# Altium schematic symbol library am29-memory.SCHLIB: 18 symbols
Pins are listed as number, name and electrical type; pins without a type are passive.

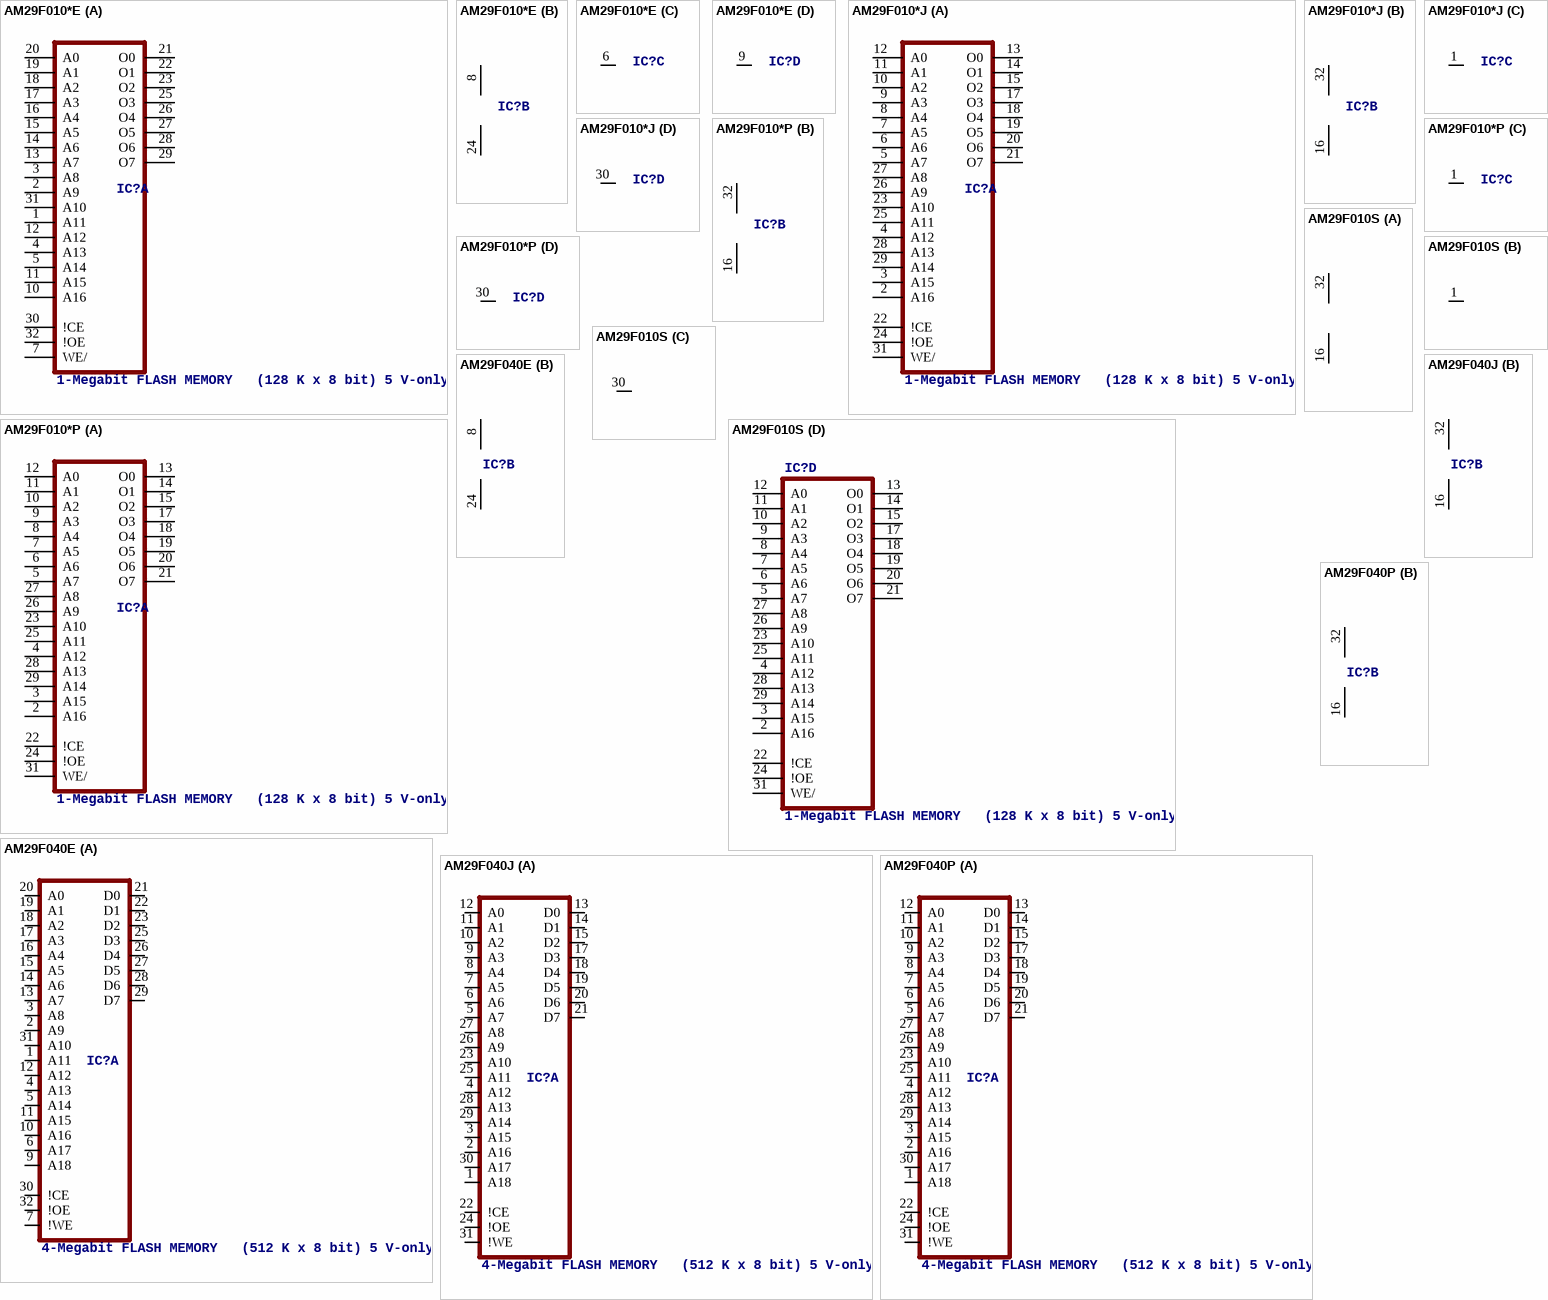
[diagram p0: symbols AM29F010*E to AM29F040P]

## AM29F010*E
designator IC?, comment 1-Megabit FLASH MEMORY   (128 K x 8 bit) 5 V-only
footprint TSOP32
part A pins: 1 A11, 2 A9, 3 A8, 4 A13, 5 A14, 7 WE/, 10 A16, 11 A15, 12 A12, 13 A7, 14 A6, 15 A5, 16 A4, 17 A3, 18 A2, 19 A1, 20 A0, 21 O0 (hiz), 22 O1 (hiz), 23 O2 (hiz), 25 O3 (hiz), 26 O4 (hiz), 27 O5 (hiz), 28 O6 (hiz), 29 O7 (hiz), 30 !CE, 31 A10, 32 !OE
part B pins: 8 VCC (power), 24 GND (power)
part C pins: 6 NC
part D pins: 9 NC

## AM29F010*J
designator IC?, comment 1-Megabit FLASH MEMORY   (128 K x 8 bit) 5 V-only
footprint PLCC32R
part A pins: 2 A16, 3 A15, 4 A12, 5 A7, 6 A6, 7 A5, 8 A4, 9 A3, 10 A2, 11 A1, 12 A0, 13 O0 (hiz), 14 O1 (hiz), 15 O2 (hiz), 17 O3 (hiz), 18 O4 (hiz), 19 O5 (hiz), 20 O6 (hiz), 21 O7 (hiz), 22 !CE, 23 A10, 24 !OE, 25 A11, 26 A9, 27 A8, 28 A13, 29 A14, 31 WE/
part B pins: 16 GND (power), 32 VCC (power)
part C pins: 1 NC
part D pins: 30 NC

## AM29F010*P
designator IC?, comment 1-Megabit FLASH MEMORY   (128 K x 8 bit) 5 V-only
footprint DIL32-3
part A pins: 2 A16, 3 A15, 4 A12, 5 A7, 6 A6, 7 A5, 8 A4, 9 A3, 10 A2, 11 A1, 12 A0, 13 O0 (hiz), 14 O1 (hiz), 15 O2 (hiz), 17 O3 (hiz), 18 O4 (hiz), 19 O5 (hiz), 20 O6 (hiz), 21 O7 (hiz), 22 !CE, 23 A10, 24 !OE, 25 A11, 26 A9, 27 A8, 28 A13, 29 A14, 31 WE/
part B pins: 16 GND (power), 32 VCC (power)
part C pins: 1 NC
part D pins: 30 NC

## AM29F010S
designator IC?, comment 1-Megabit FLASH MEMORY   (128 K x 8 bit) 5 V-only
footprint PLCC-SR32
part A pins: 16 GND (power), 32 VCC (power)
part B pins: 1 NC
part C pins: 30 NC
part D pins: 2 A16, 3 A15, 4 A12, 5 A7, 6 A6, 7 A5, 8 A4, 9 A3, 10 A2, 11 A1, 12 A0, 13 O0 (hiz), 14 O1 (hiz), 15 O2 (hiz), 17 O3 (hiz), 18 O4 (hiz), 19 O5 (hiz), 20 O6 (hiz), 21 O7 (hiz), 22 !CE, 23 A10, 24 !OE, 25 A11, 26 A9, 27 A8, 28 A13, 29 A14, 31 WE/

## AM29F040E
designator IC?, comment 4-Megabit FLASH MEMORY   (512 K x 8 bit) 5 V-only
footprint TSOP32
part A pins: 1 A11, 2 A9, 3 A8, 4 A13, 5 A14, 6 A17, 7 !WE, 9 A18, 10 A16, 11 A15, 12 A12, 13 A7, 14 A6, 15 A5, 16 A4, 17 A3, 18 A2, 19 A1, 20 A0, 21 D0 (hiz), 22 D1 (hiz), 23 D2 (hiz), 25 D3 (hiz), 26 D4 (hiz), 27 D5 (hiz), 28 D6 (hiz), 29 D7 (hiz), 30 !CE, 31 A10, 32 !OE
part B pins: 8 VCC (power), 24 GND (power)

## AM29F040J
designator IC?, comment 4-Megabit FLASH MEMORY   (512 K x 8 bit) 5 V-only
footprint PLCC32R
part A pins: 1 A18, 2 A16, 3 A15, 4 A12, 5 A7, 6 A6, 7 A5, 8 A4, 9 A3, 10 A2, 11 A1, 12 A0, 13 D0 (hiz), 14 D1 (hiz), 15 D2 (hiz), 17 D3 (hiz), 18 D4 (hiz), 19 D5 (hiz), 20 D6 (hiz), 21 D7 (hiz), 22 !CE, 23 A10, 24 !OE, 25 A11, 26 A9, 27 A8, 28 A13, 29 A14, 30 A17, 31 !WE
part B pins: 16 GND (power), 32 VCC (power)

## AM29F040P
designator IC?, comment 4-Megabit FLASH MEMORY   (512 K x 8 bit) 5 V-only
footprint DIL32-3
part A pins: 1 A18, 2 A16, 3 A15, 4 A12, 5 A7, 6 A6, 7 A5, 8 A4, 9 A3, 10 A2, 11 A1, 12 A0, 13 D0 (hiz), 14 D1 (hiz), 15 D2 (hiz), 17 D3 (hiz), 18 D4 (hiz), 19 D5 (hiz), 20 D6 (hiz), 21 D7 (hiz), 22 !CE, 23 A10, 24 !OE, 25 A11, 26 A9, 27 A8, 28 A13, 29 A14, 30 A17, 31 !WE
part B pins: 16 GND (power), 32 VCC (power)

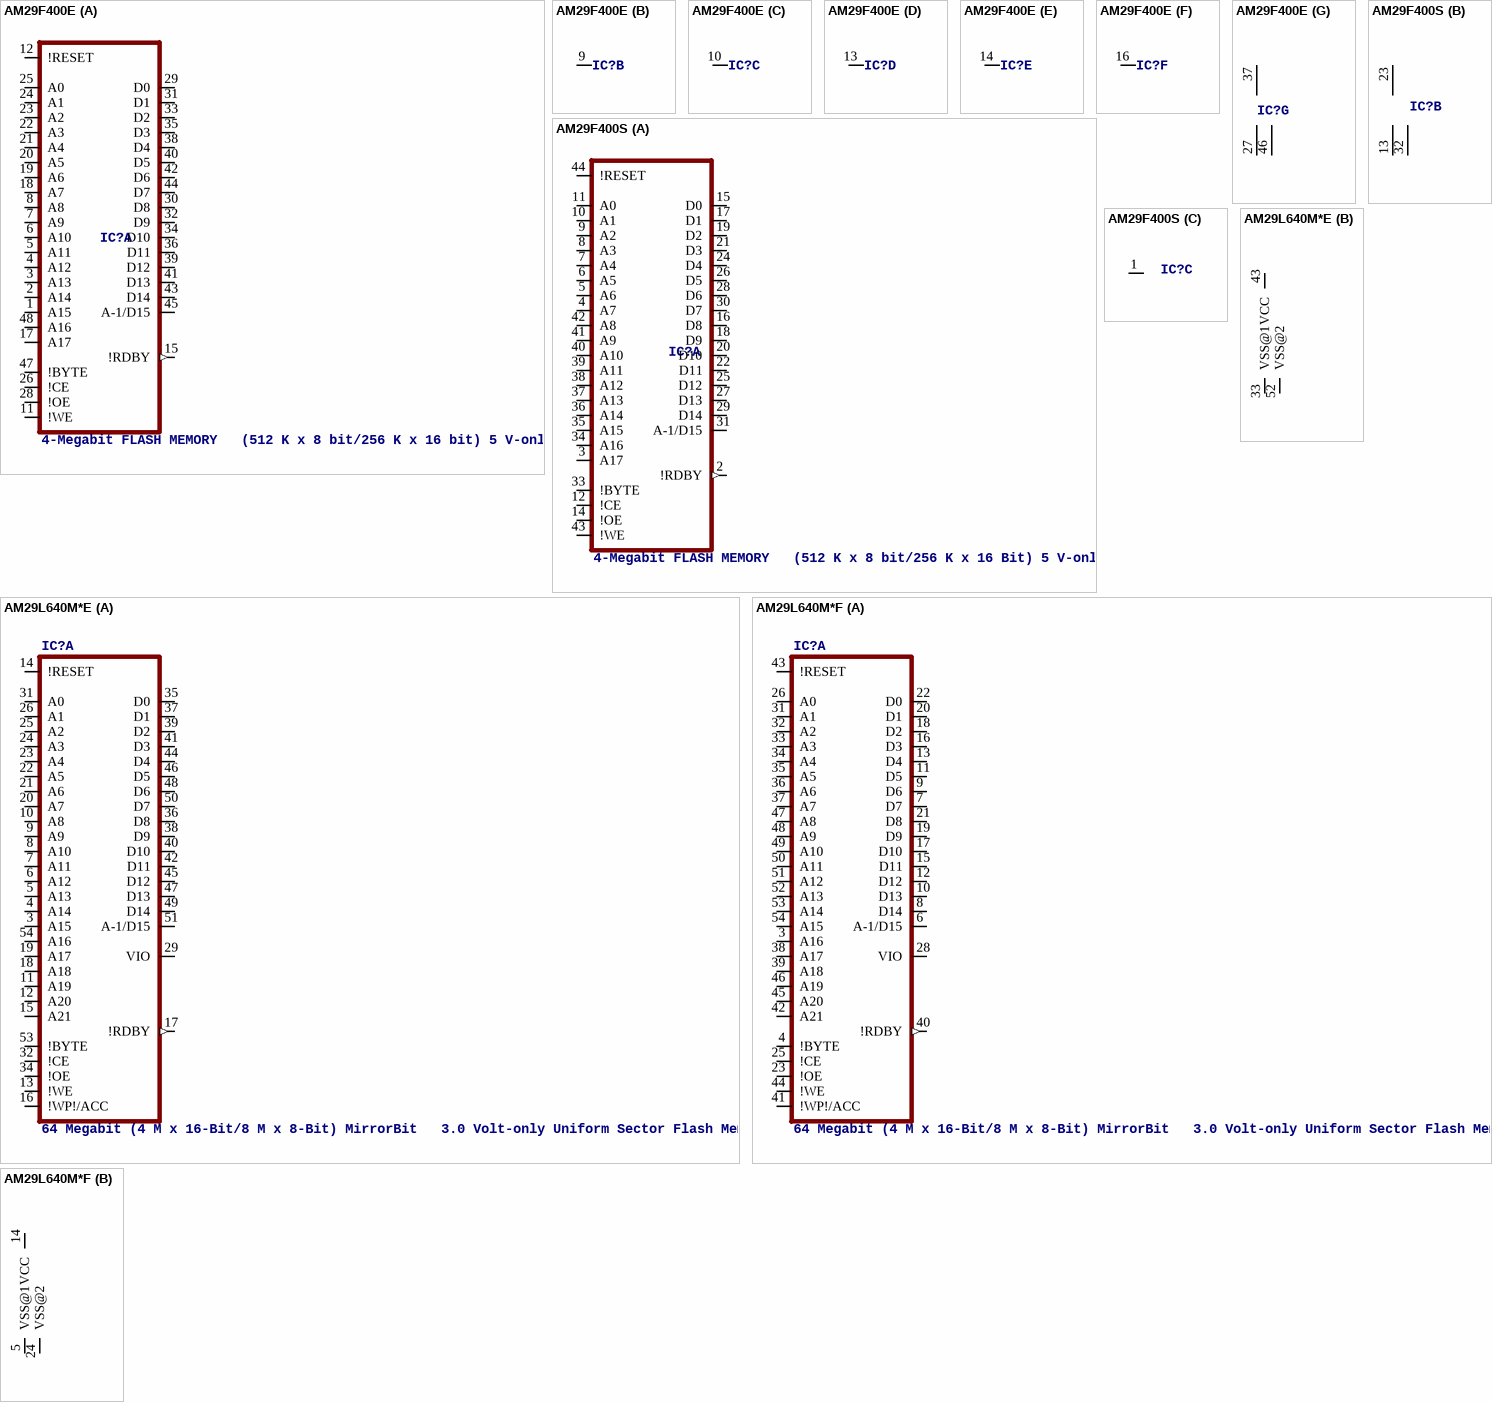
[diagram p1: symbols AM29F400E to AM29L640M*F]

## AM29F400E
designator IC?, comment 4-Megabit FLASH MEMORY   (512 K x 8 bit/256 K x 16 bit) 5 V-only
footprint TSOP48
part A pins: 1 A15, 2 A14, 3 A13, 4 A12, 5 A11, 6 A10, 7 A9, 8 A8, 11 !WE, 12 !RESET, 15 !RDBY (out), 17 A17, 18 A7, 19 A6, 20 A5, 21 A4, 22 A3, 23 A2, 24 A1, 25 A0, 26 !CE, 28 !OE, 29 D0 (hiz), 30 D8 (hiz), 31 D1 (hiz), 32 D9 (hiz), 33 D2 (hiz), 34 D10 (hiz), 35 D3 (hiz), 36 D11 (hiz), 38 D4 (hiz), 39 D12 (hiz), 40 D5 (hiz), 41 D13 (hiz), 42 D6 (hiz), 43 D14 (hiz), 44 D7 (hiz), 45 A-1/D15 (hiz), 47 !BYTE, 48 A16
part B pins: 9 NC
part C pins: 10 NC
part D pins: 13 NC
part E pins: 14 NC
part F pins: 16 NC
part G pins: 27 GND@1 (power), 37 VCC (power), 46 GND@2 (power)

## AM29F400S
designator IC?, comment 4-Megabit FLASH MEMORY   (512 K x 8 bit/256 K x 16 Bit) 5 V-only
footprint SO44
part A pins: 2 !RDBY (out), 3 A17, 4 A7, 5 A6, 6 A5, 7 A4, 8 A3, 9 A2, 10 A1, 11 A0, 12 !CE, 14 !OE, 15 D0 (hiz), 16 D8 (hiz), 17 D1 (hiz), 18 D9 (hiz), 19 D2 (hiz), 20 D10 (hiz), 21 D3 (hiz), 22 D11 (hiz), 24 D4 (hiz), 25 D12 (hiz), 26 D5 (hiz), 27 D13 (hiz), 28 D6 (hiz), 29 D14 (hiz), 30 D7 (hiz), 31 A-1/D15 (hiz), 33 !BYTE, 34 A16, 35 A15, 36 A14, 37 A13, 38 A12, 39 A11, 40 A10, 41 A9, 42 A8, 43 !WE, 44 !RESET
part B pins: 13 GND@1 (power), 23 VCC (power), 32 GND@2 (power)
part C pins: 1 NC

## AM29L640M*E
designator IC?, comment 64 Megabit (4 M x 16-Bit/8 M x 8-Bit) MirrorBit   3.0 Volt-only Uniform Sector Flash Memory with VersatileI/O Control Source: www.amd.com .. 26191.pdf
footprint TSOP56
part A pins: 3 A15, 4 A14, 5 A13, 6 A12, 7 A11, 8 A10, 9 A9, 10 A8, 11 A19, 12 A20, 13 !WE, 14 !RESET, 15 A21, 16 !WP!/ACC, 17 !RDBY (out), 18 A18, 19 A17, 20 A7, 21 A6, 22 A5, 23 A4, 24 A3, 25 A2, 26 A1, 29 VIO (power), 31 A0, 32 !CE, 34 !OE, 35 D0 (hiz), 36 D8 (hiz), 37 D1 (hiz), 38 D9 (hiz), 39 D2 (hiz), 40 D10 (hiz), 41 D3 (hiz), 42 D11 (hiz), 44 D4 (hiz), 45 D12 (hiz), 46 D5 (hiz), 47 D13 (hiz), 48 D6 (hiz), 49 D14 (hiz), 50 D7 (hiz), 51 A-1/D15 (hiz), 53 !BYTE, 54 A16
part B pins: 33 VSS@1 (power), 43 VCC (power), 52 VSS@2 (power)

## AM29L640M*F
designator IC?, comment 64 Megabit (4 M x 16-Bit/8 M x 8-Bit) MirrorBit   3.0 Volt-only Uniform Sector Flash Memory with VersatileI/O Control Source: www.amd.com .. 26191.pdf
footprint TSOP56R
part A pins: 3 A16, 4 !BYTE, 6 A-1/D15 (hiz), 7 D7 (hiz), 8 D14 (hiz), 9 D6 (hiz), 10 D13 (hiz), 11 D5 (hiz), 12 D12 (hiz), 13 D4 (hiz), 15 D11 (hiz), 16 D3 (hiz), 17 D10 (hiz), 18 D2 (hiz), 19 D9 (hiz), 20 D1 (hiz), 21 D8 (hiz), 22 D0 (hiz), 23 !OE, 25 !CE, 26 A0, 28 VIO (power), 31 A1, 32 A2, 33 A3, 34 A4, 35 A5, 36 A6, 37 A7, 38 A17, 39 A18, 40 !RDBY (out), 41 !WP!/ACC, 42 A21, 43 !RESET, 44 !WE, 45 A20, 46 A19, 47 A8, 48 A9, 49 A10, 50 A11, 51 A12, 52 A13, 53 A14, 54 A15
part B pins: 5 VSS@1 (power), 14 VCC (power), 24 VSS@2 (power)

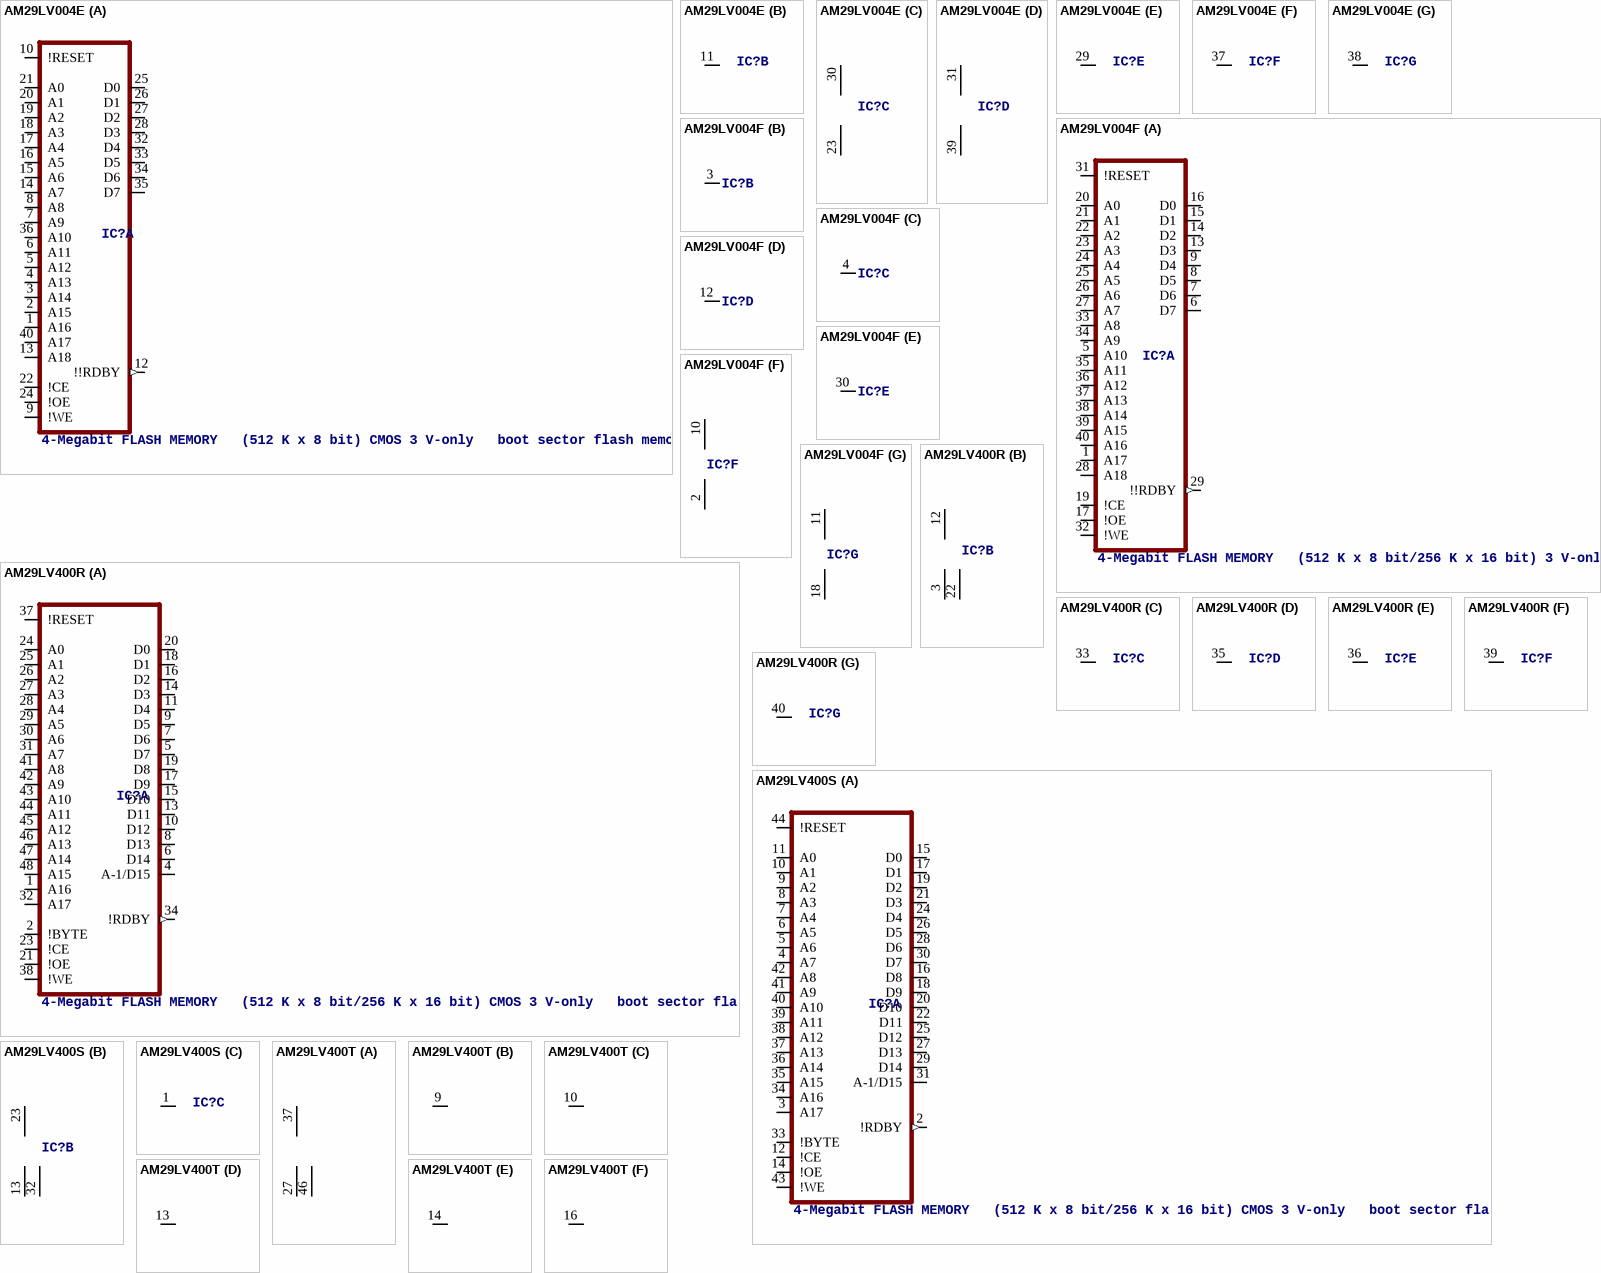
[diagram p2: symbols AM29LV004E to AM29LV400T]

## AM29LV004E
designator IC?, comment 4-Megabit FLASH MEMORY   (512 K x 8 bit) CMOS 3 V-only   boot sector flash memory
footprint TSOP40
part A pins: 1 A16, 2 A15, 3 A14, 4 A13, 5 A12, 6 A11, 7 A9, 8 A8, 9 !WE, 10 !RESET, 12 !!RDBY (out), 13 A18, 14 A7, 15 A6, 16 A5, 17 A4, 18 A3, 19 A2, 20 A1, 21 A0, 22 !CE, 24 !OE, 25 D0 (hiz), 26 D1 (hiz), 27 D2 (hiz), 28 D3 (hiz), 32 D4 (hiz), 33 D5 (hiz), 34 D6 (hiz), 35 D7 (hiz), 36 A10, 40 A17
part B pins: 11 NC
part C pins: 23 GND (power), 30 VCC (power)
part D pins: 31 VCC (power), 39 GND (power)
part E pins: 29 NC
part F pins: 37 NC
part G pins: 38 NC

## AM29LV004F
designator IC?, comment 4-Megabit FLASH MEMORY   (512 K x 8 bit/256 K x 16 bit) 3 V-only
footprint RTSOP40
part A pins: 1 A17, 5 A10, 6 D7 (hiz), 7 D6 (hiz), 8 D5 (hiz), 9 D4 (hiz), 13 D3 (hiz), 14 D2 (hiz), 15 D1 (hiz), 16 D0 (hiz), 17 !OE, 19 !CE, 20 A0, 21 A1, 22 A2, 23 A3, 24 A4, 25 A5, 26 A6, 27 A7, 28 A18, 29 !!RDBY (out), 31 !RESET, 32 !WE, 33 A8, 34 A9, 35 A11, 36 A12, 37 A13, 38 A14, 39 A15, 40 A16
part B pins: 3 NC
part C pins: 4 NC
part D pins: 12 NC
part E pins: 30 NC
part F pins: 2 GND (power), 10 VCC (power)
part G pins: 11 VCC (power), 18 GND (power)

## AM29LV400R
designator IC?, comment 4-Megabit FLASH MEMORY   (512 K x 8 bit/256 K x 16 bit) CMOS 3 V-only   boot sector flash memory
footprint RTSOP48
part A pins: 1 A16, 2 !BYTE, 4 A-1/D15 (hiz), 5 D7 (hiz), 6 D14 (hiz), 7 D6 (hiz), 8 D13 (hiz), 9 D5 (hiz), 10 D12 (hiz), 11 D4 (hiz), 13 D11 (hiz), 14 D3 (hiz), 15 D10 (hiz), 16 D2 (hiz), 17 D9 (hiz), 18 D1 (hiz), 19 D8 (hiz), 20 D0 (hiz), 21 !OE, 23 !CE, 24 A0, 25 A1, 26 A2, 27 A3, 28 A4, 29 A5, 30 A6, 31 A7, 32 A17, 34 !RDBY (out), 37 !RESET, 38 !WE, 41 A8, 42 A9, 43 A10, 44 A11, 45 A12, 46 A13, 47 A14, 48 A15
part B pins: 3 GND@1 (power), 12 VCC (power), 22 GND@2 (power)
part C pins: 33 NC
part D pins: 35 NC
part E pins: 36 NC
part F pins: 39 NC
part G pins: 40 NC

## AM29LV400S
designator IC?, comment 4-Megabit FLASH MEMORY   (512 K x 8 bit/256 K x 16 bit) CMOS 3 V-only   boot sector flash memory
footprint SO44
part A pins: 2 !RDBY (out), 3 A17, 4 A7, 5 A6, 6 A5, 7 A4, 8 A3, 9 A2, 10 A1, 11 A0, 12 !CE, 14 !OE, 15 D0 (hiz), 16 D8 (hiz), 17 D1 (hiz), 18 D9 (hiz), 19 D2 (hiz), 20 D10 (hiz), 21 D3 (hiz), 22 D11 (hiz), 24 D4 (hiz), 25 D12 (hiz), 26 D5 (hiz), 27 D13 (hiz), 28 D6 (hiz), 29 D14 (hiz), 30 D7 (hiz), 31 A-1/D15 (hiz), 33 !BYTE, 34 A16, 35 A15, 36 A14, 37 A13, 38 A12, 39 A11, 40 A10, 41 A9, 42 A8, 43 !WE, 44 !RESET
part B pins: 13 GND@1 (power), 23 VCC (power), 32 GND@2 (power)
part C pins: 1 NC

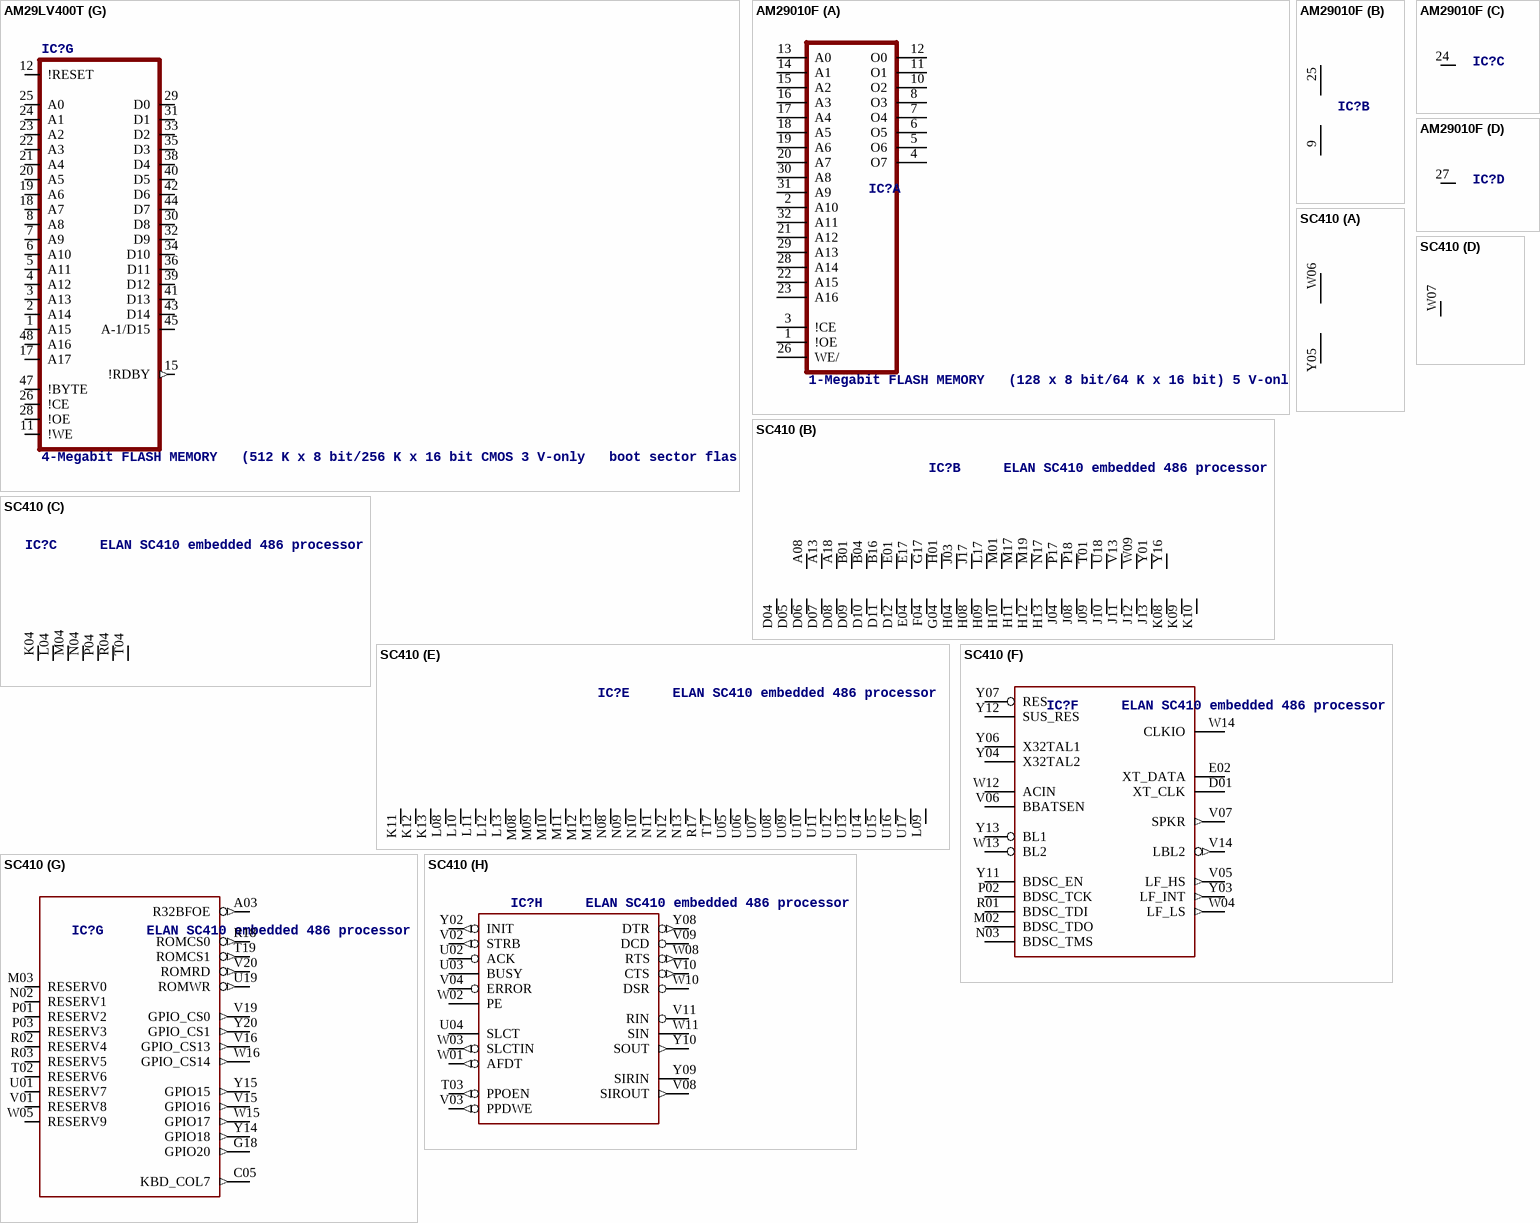
[diagram p3: symbols AM29LV400T to SC410]

## AM29LV400T
designator IC?, comment 4-Megabit FLASH MEMORY   (512 K x 8 bit/256 K x 16 bit CMOS 3 V-only   boot sector flash memory
footprint TSOP48
part A pins: 27 GND@1 (power), 37 VCC (power), 46 GND@2 (power)
part B pins: 9 NC
part C pins: 10 NC
part D pins: 13 NC
part E pins: 14 NC
part F pins: 16 NC
part G pins: 1 A15, 2 A14, 3 A13, 4 A12, 5 A11, 6 A10, 7 A9, 8 A8, 11 !WE, 12 !RESET, 15 !RDBY (out), 17 A17, 18 A7, 19 A6, 20 A5, 21 A4, 22 A3, 23 A2, 24 A1, 25 A0, 26 !CE, 28 !OE, 29 D0 (hiz), 30 D8 (hiz), 31 D1 (hiz), 32 D9 (hiz), 33 D2 (hiz), 34 D10 (hiz), 35 D3 (hiz), 36 D11 (hiz), 38 D4 (hiz), 39 D12 (hiz), 40 D5 (hiz), 41 D13 (hiz), 42 D6 (hiz), 43 D14 (hiz), 44 D7 (hiz), 45 A-1/D15 (hiz), 47 !BYTE, 48 A16

## AM29010F
designator IC?, comment 1-Megabit FLASH MEMORY   (128 x 8 bit/64 K x 16 bit) 5 V-only
footprint RTSOP32
part A pins: 1 !OE, 2 A10, 3 !CE, 4 O7 (hiz), 5 O6 (hiz), 6 O5 (hiz), 7 O4 (hiz), 8 O3 (hiz), 10 O2 (hiz), 11 O1 (hiz), 12 O0 (hiz), 13 A0, 14 A1, 15 A2, 16 A3, 17 A4, 18 A5, 19 A6, 20 A7, 21 A12, 22 A15, 23 A16, 26 WE/, 28 A14, 29 A13, 30 A8, 31 A9, 32 A11
part B pins: 9 GND (power), 25 VCC (power)
part C pins: 24 NC
part D pins: 27 NC

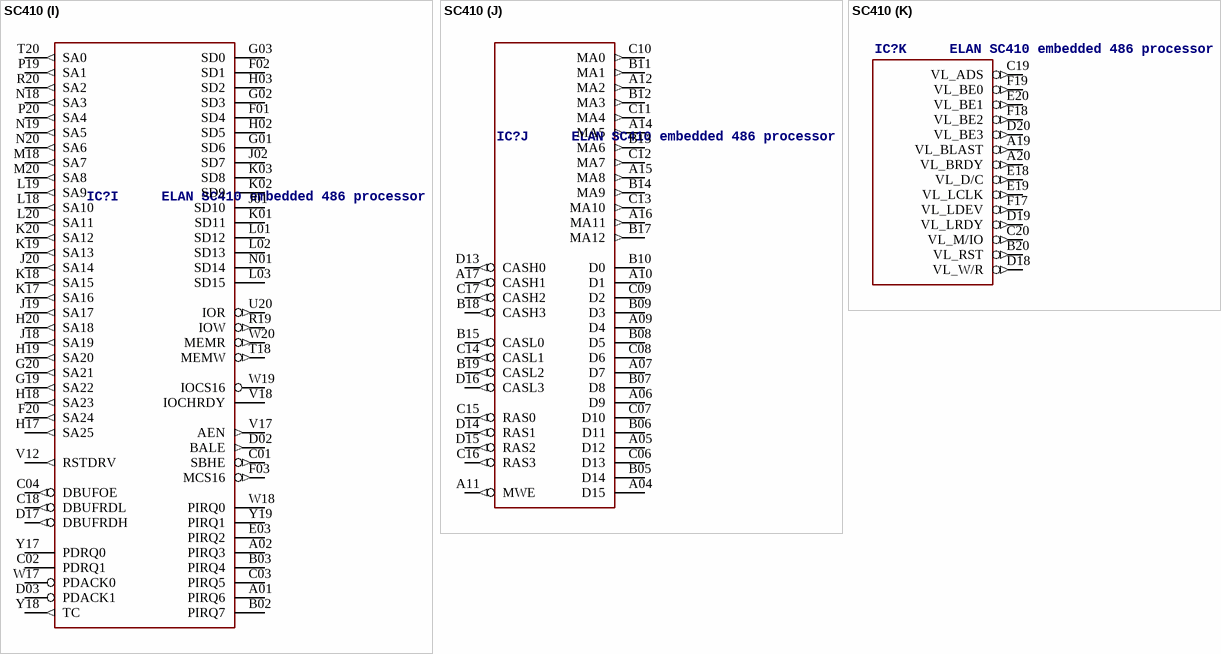
[diagram p4: symbol SC410]

## SC410
designator IC?, comment ELAN SC410 embedded 486 processor
footprint BGA292
part A pins: W06 AVCC@1 (power), Y05 AGND@1 (power)
part B pins: A08 VCC@1 (power), A13 VCC@2 (power), A18 VCC@3 (power), B01 VCC@4 (power), B04 VCC@5 (power), B16 VCC@6 (power), D04 GND@1 (power), D05 GND@2 (power), D06 GND@3 (power), D07 GND@4 (power), D08 GND@5 (power), D09 GND@6 (power), D10 GND@7 (power), D11 GND@8 (power), D12 GND@9 (power), E01 VCC@7 (power), E04 GND@10 (power), E17 VCC@8 (power), F04 GND@11 (power), G04 GND@12 (power), G17 VCC@9 (power), H01 VCC@10 (power), H04 GND@13 (power), H08 GND@14 (power), H09 GND@15 (power), H10 GND@16 (power), H11 GND@17 (power), H12 GND@18 (power), H13 GND@19 (power), J03 VCC@11 (power), J04 GND@20 (power), J08 GND@21 (power), J09 GND@22 (power), J10 GND@23 (power), J11 GND@24 (power), J12 GND@25 (power), J13 GND@26 (power), J17 VCC@12 (power), K08 GND@27 (power), K09 GND@28 (power), K10 GND@29 (power), L17 VCC@13 (power), M01 VCC@14 (power), M17 VCC@15 (power), M19 VCC@16 (power), N17 VCC@17 (power), P17 VCC@18 (power), P18 VCC@19 (power), T01 VCC@20 (power), U18 VCC@21 (power), V13 VCC@22 (power), W09 VCC@23 (power), Y01 VCC@24 (power), Y16 VCC@25 (power)
part C pins: K04 CPUVCC@1 (power), L04 CPUVCC@2 (power), M04 CPUVCC@3 (power), N04 CPUVCC@4 (power), P04 CPUVCC@5 (power), R04 CPUVCC@6 (power), T04 CPUVCC@7 (power)
part D pins: W07 RTCVCC@1 (power)
part E pins: K11 GND@1 (power), K12 GND@2 (power), K13 GND@3 (power), L08 GND@4 (power), L09 GND@36 (power), L10 GND@5 (power), L11 GND@6 (power), L12 GND@7 (power), L13 GND@8 (power), M08 GND@9 (power), M09 GND@10 (power), M10 GND@11 (power), M11 GND@12 (power), M12 GND@13 (power), M13 GND@14 (power), N08 GND@15 (power), N09 GND@16 (power), N10 GND@17 (power), N11 GND@18 (power), N12 GND@19 (power), N13 GND@20 (power), R17 GND@21 (power), T17 GND@22 (power), U05 GND@23 (power), U06 GND@24 (power), U07 GND@25 (power), U08 GND@26 (power), U09 GND@27 (power), U10 GND@28 (power), U11 GND@29 (power), U12 GND@30 (power), U13 GND@31 (power), U14 GND@32 (power), U15 GND@33 (power), U16 GND@34 (power), U17 GND@35 (power)
part F pins: D01 XT_CLK, E02 XT_DATA, M02 BDSC_TDO, N03 BDSC_TMS, P02 BDSC_TCK, R01 BDSC_TDI, V05 LF_HS (out), V06 BBATSEN, V07 SPKR (out), V14 LBL2 (out), W04 LF_LS (out), W12 ACIN, W13 BL2, W14 CLKIO, Y03 LF_INT (out), Y04 X32TAL2, Y06 X32TAL1, Y07 RES, Y11 BDSC_EN, Y12 SUS_RES, Y13 BL1
part G pins: A03 R32BFOE (out), C05 KBD_COL7 (out), G18 GPIO20 (out), M03 RESERV0, N02 RESERV1, P01 RESERV2, P03 RESERV3, R02 RESERV4, R03 RESERV5, R18 ROMCS0 (out), T02 RESERV6, T19 ROMCS1 (out), U01 RESERV7, U19 ROMWR (out), V01 RESERV8, V15 GPIO16 (out), V16 GPIO_CS13 (out), V19 GPIO_CS0 (out), V20 ROMRD (out), W05 RESERV9, W15 GPIO17 (out), W16 GPIO_CS14 (out), Y14 GPIO18 (out), Y15 GPIO15 (out), Y20 GPIO_CS1 (out)
part H pins: T03 PPOEN (out), U02 ACK, U03 BUSY, U04 SLCT, V02 STRB (out), V03 PPDWE (out), V04 ERROR, V08 SIROUT (out), V09 DCD, V10 CTS (out), V11 RIN, W01 AFDT (out), W02 PE, W03 SLCTIN (out), W08 RTS (out), W10 DSR, W11 SIN, Y02 INIT (out), Y08 DTR (out), Y09 SIRIN, Y10 SOUT (out)
part I pins: A01 PIRQ6, A02 PIRQ3, B02 PIRQ7, B03 PIRQ4, C01 SBHE (out), C02 PDRQ1, C03 PIRQ5, C04 DBUFOE (out), C18 DBUFRDL (out), D02 BALE (out), D03 PDACK1, D17 DBUFRDH (out), E03 PIRQ2, F01 SD4, F02 SD1, F03 MCS16 (out), F20 SA24 (out), G01 SD6, G02 SD3, G03 SD0, G19 SA22 (out), G20 SA21 (out), H02 SD5, H03 SD2, H17 SA25 (out), H18 SA23 (out), H19 SA20 (out), H20 SA18 (out), J01 SD10, J02 SD7, J18 SA19 (out), J19 SA17 (out), J20 SA14 (out), K01 SD11, K02 SD9, K03 SD8, K17 SA16 (out), K18 SA15 (out), K19 SA13 (out), K20 SA12 (out), L01 SD12, L02 SD13, L03 SD15, L18 SA10 (out), L19 SA9 (out), L20 SA11 (out), M18 SA7 (out), M20 SA8 (out), N01 SD14, N18 SA3 (out), N19 SA5 (out), N20 SA6 (out), P19 SA1 (out), P20 SA4 (out), R19 IOW (out), R20 SA2 (out), T18 MEMW (out), T20 SA0 (out), U20 IOR (out), V12 RSTDRV (out), V17 AEN (out), V18 IOCHRDY, W17 PDACK0, W18 PIRQ0, W19 IOCS16, W20 MEMR (out), Y17 PDRQ0, Y18 TC (out), Y19 PIRQ1
part J pins: A04 D15, A05 D12, A06 D9, A07 D7, A09 D4, A10 D1, A11 MWE (out), A12 MA2 (out), A14 MA5 (out), A15 MA8 (out), A16 MA11 (out), A17 CASH1 (out), B05 D14, B06 D11, B07 D8, B08 D5, B09 D3, B10 D0, B11 MA1 (out), B12 MA3 (out), B13 MA6 (out), B14 MA9 (out), B15 CASL0 (out), B17 MA12 (out), B18 CASH3 (out), B19 CASL2 (out), C06 D13, C07 D10, C08 D6, C09 D2, C10 MA0 (out), C11 MA4 (out), C12 MA7 (out), C13 MA10 (out), C14 CASL1 (out), C15 RAS0 (out), C16 RAS3 (out), C17 CASH2 (out), D13 CASH0 (out), D14 RAS1 (out), D15 RAS2 (out), D16 CASL3 (out)
part K pins: A19 VL_BLAST (out), A20 VL_BRDY (out), B20 VL_RST (out), C19 VL_ADS (out), C20 VL_M/IO (out), D18 VL_W/R (out), D19 VL_LRDY (out), D20 VL_BE3 (out), E18 VL_D/C (out), E19 VL_LCLK (out), E20 VL_BE1 (out), F17 VL_LDEV (out), F18 VL_BE2 (out), F19 VL_BE0 (out)